# Altium schematic symbol library 发射端原理图.SchLib: 8 symbols
Pins are listed as number, name and electrical type; pins without a type are passive.

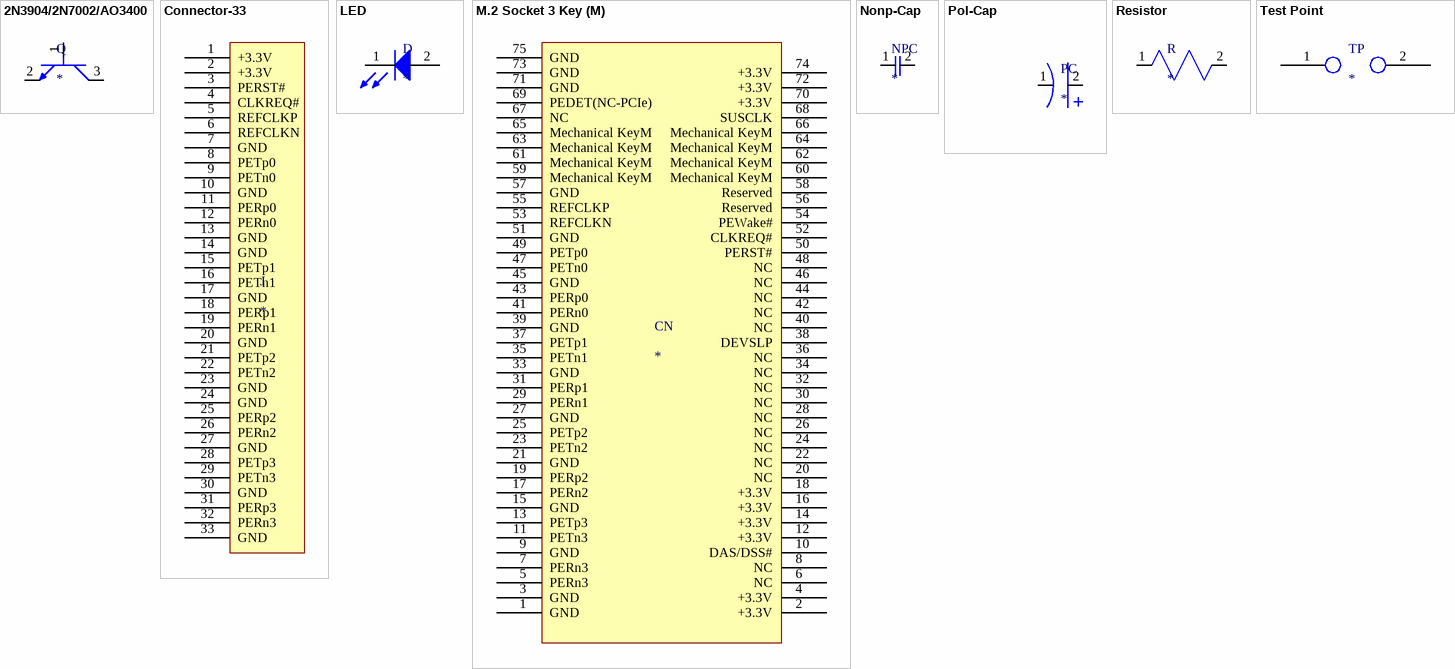
[diagram p0: symbols 2N3904/2N7002/AO3400 to Test Point]

## 2N3904/2N7002/AO3400
designator Q
footprint SOT23-3
pins: 1, 2, 3

## Connector-33
designator J
footprint b2b-hole
pins: 1 +3.3V, 2 +3.3V, 3 PERST#, 4 CLKREQ#, 5 REFCLKP, 6 REFCLKN, 7 GND, 8 PETp0, 9 PETn0, 10 GND, 11 PERp0, 12 PERn0, 13 GND, 14 GND, 15 PETp1, 16 PETn1, 17 GND, 18 PERp1, 19 PERn1, 20 GND, 21 PETp2, 22 PETn2, 23 GND, 24 GND, 25 PERp2, 26 PERn2, 27 GND, 28 PETp3, 29 PETn3, 30 GND, 31 PERp3, 32 PERn3, 33 GND

## LED
designator D
footprint 0201C
footprint 0402C
pins: 1, 2

## M.2 Socket 3 Key (M)
designator CN
footprint m.2 2.3H
footprint M.2 Insert
pins: 1 GND, 2 +3.3V, 3 GND, 4 +3.3V, 5 PERn3, 6 NC, 7 PERn3, 8 NC, 9 GND, 10 DAS/DSS#, 11 PETn3, 12 +3.3V, 13 PETp3, 14 +3.3V, 15 GND, 16 +3.3V, 17 PERn2, 18 +3.3V, 19 PERp2, 20 NC, 21 GND, 22 NC, 23 PETn2, 24 NC, 25 PETp2, 26 NC, 27 GND, 28 NC, 29 PERn1, 30 NC, 31 PERp1, 32 NC, 33 GND, 34 NC, 35 PETn1, 36 NC, 37 PETp1, 38 DEVSLP, 39 GND, 40 NC, 41 PERn0, 42 NC, 43 PERp0, 44 NC, 45 GND, 46 NC, 47 PETn0, 48 NC, 49 PETp0, 50 PERST#, 51 GND, 52 CLKREQ#, 53 REFCLKN, 54 PEWake#, 55 REFCLKP, 56 Reserved, 57 GND, 58 Reserved, 59 Mechanical KeyM, 60 Mechanical KeyM, 61 Mechanical KeyM, 62 Mechanical KeyM, 63 Mechanical KeyM, 64 Mechanical KeyM, 65 Mechanical KeyM, 66 Mechanical KeyM, 67 NC, 68 SUSCLK, 69 PEDET(NC-PCIe), 70 +3.3V, 71 GND, 72 +3.3V, 73 GND, 74 +3.3V, 75 GND

## Nonp-Cap
designator NPC
footprint 0201C
footprint 0402C
pins: 1, 2

## Pol-Cap
designator PC
footprint 7343T
pins: 1, 2

## Resistor
designator R
footprint 0402C
footprint 0201C
pins: 1, 2

## Test Point
designator TP
footprint TEST-POINT-BOTTOM
footprint TEST-POINT-TOP
pins: 1, 2